# Altium schematic symbol library AmLCDDriver.SchLib: 1 symbol
Pins are listed as number, name and electrical type; pins without a type are passive.

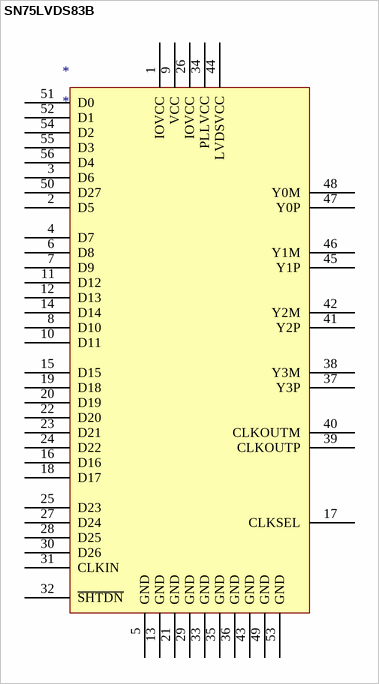
[diagram p0: symbol SN75LVDS83B]

## SN75LVDS83B
designator *
pins: 1 IOVCC, 2 D5, 3 D6, 4 D7, 5 GND, 6 D8, 7 D9, 8 D10, 9 VCC, 10 D11, 11 D12, 12 D13, 13 GND, 14 D14, 15 D15, 16 D16, 17 CLKSEL, 18 D17, 19 D18, 20 D19, 21 GND, 22 D20, 23 D21, 24 D22, 25 D23, 26 IOVCC, 27 D24, 28 D25, 29 GND, 30 D26, 31 CLKIN, 32 ~{SHTDN}, 33 GND, 34 PLLVCC, 35 GND, 36 GND, 37 Y3P, 38 Y3M, 39 CLKOUTP, 40 CLKOUTM, 41 Y2P, 42 Y2M, 43 GND, 44 LVDSVCC, 45 Y1P, 46 Y1M, 47 Y0P, 48 Y0M, 49 GND, 50 D27, 51 D0, 52 D1, 53 GND, 54 D2, 55 D3, 56 D4